# Altium footprint library Blueberry_PS.PcbLib: 38 footprints (part 3 of 3)
Each footprint in its own frame and in the unit in brackets; x right, y up, seen from the top. Pads: shape width x height; smd on the part's side, far side on the other; paste and mask are expansions set on the pad; w line width, h text height; cw(c..) or ccw(c..) is an arc to the next point about the centre after c.
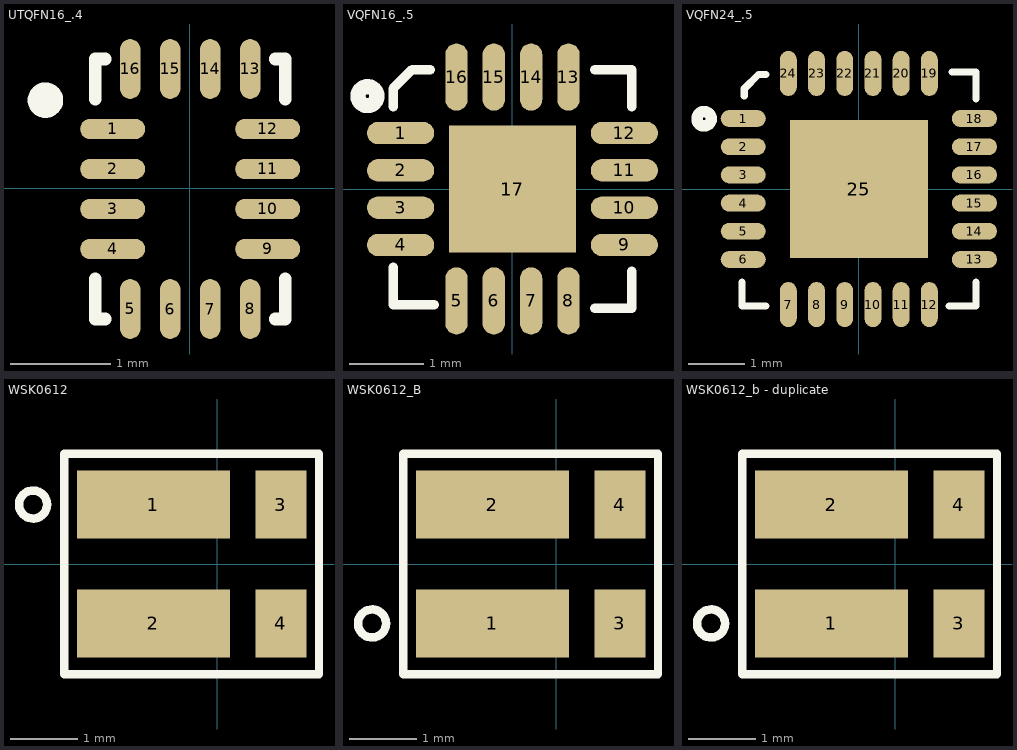
[diagram p2: the footprints below, top view; thin cyan lines are the x and y axes]

## UTQFN16_.4 [mm]
pads (16):
  oval 0.65x0.203 smd: 1(-0.771,0.591) 2(-0.771,0.191) 3(-0.771,-0.209) 4(-0.771,-0.609) 9(0.779,-0.609) 10(0.779,-0.209) 11(0.779,0.191) 12(0.779,0.591)
  oval 0.203x0.6 smd: 5(-0.596,-1.209) 6(-0.196,-1.209) 7(0.204,-1.209) 8(0.604,-1.209) 13(0.604,1.191) 14(0.204,1.191) 15(-0.196,1.191) 16(-0.596,1.191)
Top Overlay:
  circle w0.203: c-1.443,0.88 r0.076
  lines w0.127: -0.946,-0.909 -0.946,-1.309 -0.846,-1.309 ; -0.946,0.891 -0.946,1.291 -0.846,1.291 ; 0.854,-1.309 0.954,-1.309 0.954,-0.909 ; 0.854,1.291 0.954,1.291 0.954,0.891

## VQFN16_.5 [mm]
pads (17):
  oval 0.9x0.3 smd: 1(-1.5,0.75) 2(-1.5,0.25) 3(-1.5,-0.25) 4(-1.5,-0.75) 9(1.5,-0.75) 10(1.5,-0.25) 11(1.5,0.25) 12(1.5,0.75)
  oval 0.3x0.9 smd: 5(-0.75,-1.5) 6(-0.25,-1.5) 7(0.25,-1.5) 8(0.75,-1.5) 13(0.75,1.5) 14(0.25,1.5) 15(-0.25,1.5) 16(-0.75,1.5)
  rect 1.7x1.7 smd: 17(0,0)
Top Overlay:
  circle w0.203: c-1.943,1.245 r0.127
  lines w0.127: -1.6,-1.05 -1.6,-1.55 -1.05,-1.55 ; -1.6,1.1 -1.6,1.346 -1.346,1.6 -1.1,1.6 ; 1.1,-1.6 1.6,-1.6 1.6,-1.1 ; 1.1,1.6 1.6,1.6 1.6,1.1

## VQFN24_.5 [mm]
pads (25):
  oval 0.8x0.3 smd: 1(-2.05,1.25) 2(-2.05,0.75) 3(-2.05,0.25) 4(-2.05,-0.25) 5(-2.05,-0.75) 6(-2.05,-1.25) 13(2.05,-1.25) 14(2.05,-0.75) 15(2.05,-0.25) 16(2.05,0.25) 17(2.05,0.75) 18(2.05,1.25)
  oval 0.3x0.8 smd: 7(-1.25,-2.05) 8(-0.75,-2.05) 9(-0.25,-2.05) 10(0.25,-2.05) 11(0.75,-2.05) 12(1.25,-2.05) 19(1.25,2.05) 20(0.75,2.05) 21(0.25,2.05) 22(-0.25,2.05) 23(-0.75,2.05) 24(-1.25,2.05)
  rect 2.45x2.45 smd: 25(0,0)
Top Overlay:
  circle w0.203: c-2.743,1.245 r0.127
  lines w0.127: -2.075,-1.651 -2.075,-2.075 -1.651,-2.075 ; -2.032,1.651 -2.032,1.778 -1.778,2.032 -1.651,2.032 ; 1.6,-2.075 2.075,-2.075 2.075,-1.651 ; 1.651,2.075 2.075,2.075 2.075,1.6

## WSK0612 [mil]
pads (4):
  rect 90x40 smd: 1(-37.5,35) 2(-37.5,-35)
  rect 30x40 smd: 3(37.5,35) 4(37.5,-35)
Top Overlay:
  circle w5: c-108.25,35 r8.25
  lines w5: -90,-65 -90,65 60,65 60,-65 -90,-65

## WSK0612_B [mil]
pads (4):
  rect 90x40 smd: 1(-37.5,-35) 2(-37.5,35)
  rect 30x40 smd: 3(37.5,-35) 4(37.5,35)
Top Overlay:
  circle w5: c-108.25,-35 r8.25
  lines w5: -90,-65 -90,65 60,65 60,-65 -90,-65

## WSK0612_b - duplicate [mil]
pads (4):
  rect 90x40 smd: 1(-37.5,-35) 2(-37.5,35)
  rect 30x40 smd: 3(37.5,-35) 4(37.5,35)
Top Overlay:
  circle w5: c-108.25,-35 r8.25
  lines w5: -90,-65 60,-65 60,65 -90,65 -90,-65